# Altium schematic symbol library PinSocKeyPointOthers.SchLib: 19 symbols
Pins are listed as number, name and electrical type; pins without a type are passive.

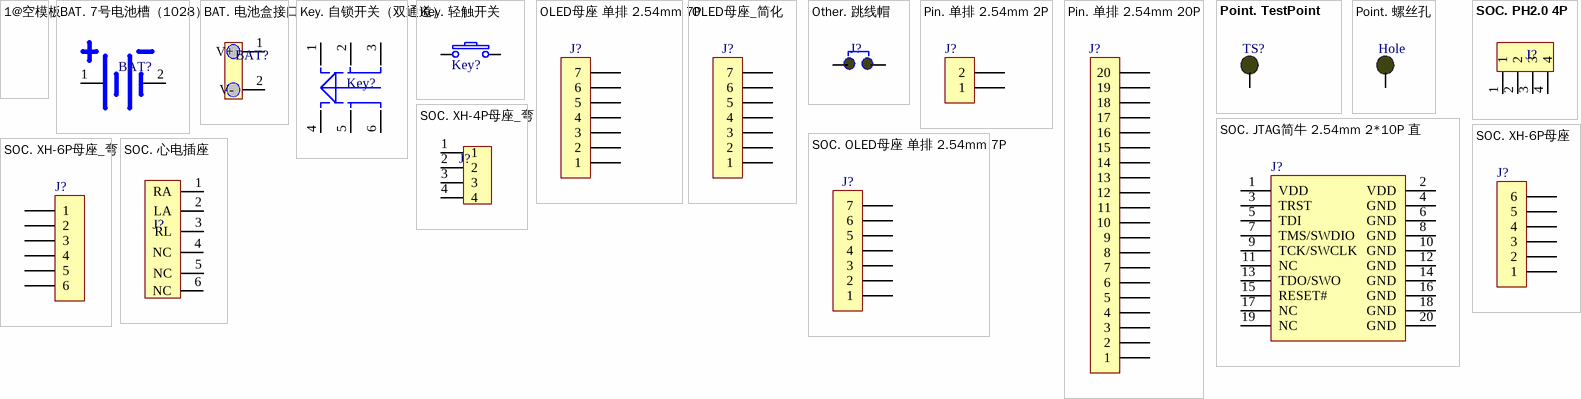
[diagram p0: symbols 1@空模板 to SOC. 心电插座]

## 1@空模板
designator ?  (value not drawn)
A.元件编号: *; B.元件名称: *; C.元件类型: *; D.元件型号: *; E.封装规格: *; F.阻值(Ω)/容值(μF): *; G.电压: *; H.精度: *; I.焊盘数量: *; J.品牌产地: *; 单价/元: *; 原创: *; 备注: *

## BAT. 7号电池槽（1028）
designator BAT?  (value not drawn)
A.元件编号: *; B.元件名称: *; C.元件类型: *; D.元件型号: *; E.封装规格: *; F.阻值(Ω)/容值(μF): *; G.电压: *; H.精度: *; I.焊盘数量: *; J.品牌产地: *; 单价/元: *; 原创: *; 备注: *
footprint Battery1028 (7号电池槽穿孔)
pins: 1 V+, 2 V-

## BAT. 电池盒接口
designator BAT?, comment 电池接口  (value not drawn)
A.元件编号: *; B.元件名称: *; C.元件类型: *; D.元件型号: *; E.封装规格: *; F.阻值(Ω)/容值(μF): *; G.电压: *; H.精度: *; I.焊盘数量: *; J.品牌产地: *; 单价/元: *; 原创: *; 备注: *
footprint 电池线接口
pins: 1 V+, 2 V-

## Key. 自锁开关（双通道）
designator Key?  (value not drawn)
按下1-2,4-5接通，松开2-3,5-6接通; A.元件编号: C118141; 备注: 立创非可贴片元器件; B.元件名称: 轻触开关 3.6*6.1*2.5 灰头; C.元件类别: 轻触开关; E.封装规格: SMD/3.6*6.1*2.5; I.焊盘数量: 2; J.品牌产地: 韩国韩荣; 单价/元（大批量）: 0.21; D.元件型号: 轻触开关 3.6*6.1*2.5 灰头; F.阻值(Ω)/容值(uF): *; G.电压: *; H.精度: *; Value: *
footprint Double-Channel self-locking push key
pins: 1, 2, 3, 4, 5, 6

## Key. 轻触开关
designator Key?  (value not drawn)
贴片轻触开关，  灰头，  3.6*6.1*2.5，SMD/3.6*6.1*2.5; A.元件编号: C118141; 备注: 立创非可贴片元器件; B.元件名称: 轻触开关 3.6*6.1*2.5 灰头; I.焊盘数量: 2; J.品牌产地: 韩国韩荣; 单价/元（大批量）: 0.21; C.元件类别: 轻触开关; D.元件型号: 轻触开关 3.6*6.1*2.5 灰头; E.封装规格: SMD/3.6*6.1*2.5; F.阻值(Ω)/容值(uF): *; G.电压: *; H.精度: *; Value: *
footprint TSW SMD-6*6*5
footprint TSW SMD-3.6*6.1*2.5
pins: 1, 2

## OLED母座 单排 2.54mm 7P
designator J?  (value not drawn)
OLED母座，单排，2.54mm，7P; 备注: 立创非可贴片元器件，C5303，2.54mm 1*40T 直 排母，后加工; C.元件类别: 排母; E.封装规格: HDR-1X7; I.焊盘数量: 7; 单价/元（大批量）: 0.66; Value: *; A.元件编号: *; B.元件名称: OLED母座 单排 2.54mm 7P; H.精度: *; G.电压: *; F.阻值(Ω)/容值(uF): *; J.品牌产地: *
footprint OLED SIP2.54-7P
pins: 1, 2, 3, 4, 5, 6, 7

## OLED母座_简化
designator J?  (value not drawn)
OLED母座，单排，2.54mm，7P; 备注: 立创非可贴片元器件，C5303，2.54mm 1*40T 直 排母，后加工; C.元件类别: 排母; A.元件编号: C225504; E.封装规格: HDR-1X7; B.元件名称: OLED母座 单排 2.54mm 7P; I.焊盘数量: 7; 单价/元（大批量）: 0.66; Value: *; H.精度: *; G.电压: *; F.阻值(Ω)/容值(uF): *; J.品牌产地: *
footprint OLED SIP2.54-7P - simplify
pins: 1, 2, 3, 4, 5, 6, 7

## Other. 跳线帽
designator J?  (value not drawn)
A.元件编号: *; B.元件名称: *; C.元件类型: *; D.元件型号: *; E.封装规格: *; F.阻值(Ω)/容值(μF): *; G.电压: *; H.精度: *; I.焊盘数量: *; J.品牌产地: *; 单价/元: *; 原创: *; 备注: *
footprint HDR-1x2
pins: 1, 2

## Pin. 单排 2.54mm 2P
designator J?  (value not drawn)
排针，单排，2.54mm，2P，国产; 备注: 立创非可贴片元器件，C2337，2.54mm 1*40P 直 排针，后加工; C.元件类别: 排针; E.封装规格: HDR-1X2; B.元件名称: 2.54mm 1*2P 直 排针; I.焊盘数量: 2; 单价/元（大批量）: 0.31; Value: *; A.元件编号: *; D.元件型号: *; H.精度: *; G.电压: *; F.阻值(Ω)/容值(uF): *; J.品牌产地: *
footprint HDR-1x2
pins: 1, 2

## Pin. 单排 2.54mm 20P
designator J?  (value not drawn)
排针，单排，2.54mm，20P，国产; 备注: 立创非可贴片元器件，C2337，2.54mm 1*40P 直 排针，后加工; C.元件类别: 排针; E.封装规格: HDR-1X20; B.元件名称: 2.54mm 20P 直 排针; I.焊盘数量: 20; 单价/元（大批量）: 0.31; Value: *; A.元件编号: *; D.元件型号: *; H.精度: *; G.电压: *; F.阻值(Ω)/容值(uF): *; J.品牌产地: *
footprint HDR-1X20
pins: 1, 2, 3, 4, 5, 6, 7, 8, 9, 10, 11, 12, 13, 14, 15, 16, 17, 18, 19, 20

## Point. TestPoint
designator TS?, comment 测试点  (value not drawn)
A.元件编号: *; B.元件名称: *; C.元件类型: *; D.元件型号: *; E.封装规格: *; F.阻值(Ω)/容值(μF): *; G.电压: *; H.精度: *; I.焊盘数量: *; J.品牌产地: *; 单价/元: *; 原创: *; 备注: *
footprint singleXH-2.54mm (测试点)
pins: 1

## Point. 螺丝孔
designator Hole, comment 测试点  (value not drawn)
A.元件编号: *; B.元件名称: *; C.元件类型: *; D.元件型号: *; E.封装规格: *; F.阻值(Ω)/容值(μF): *; G.电压: *; H.精度: *; I.焊盘数量: *; J.品牌产地: *; 单价/元: *; 原创: *; 备注: *
footprint 螺丝孔
pins: 1

## SOC. JTAG简牛 2.54mm 2*10P 直
designator J?  (value not drawn)
简牛，2.54mm，2*10P，直，国产; 备注: 立创非可贴片元器件; A.元件编号: C3405; C.元件类别: 牛角连接器; E.封装规格: DIP-20; I.焊盘数量: 20; J.品牌产地: 国产; 单价/元（大批量）: 0.33; B.元件名称: 简牛 2.54mm 2*10P 直; D.元件型号: 简牛 2.54mm 2*10P 直; F.阻值(Ω)/容值(uF): *; G.电压: *; H.精度: *
footprint IDC2.54-20P
pins: 1 VDD, 2 VDD, 3 TRST, 4 GND, 5 TDI, 6 GND, 7 TMS/SWDIO, 8 GND, 9 TCK/SWCLK, 10 GND, 11 NC, 12 GND, 13 TDO/SWO, 14 GND, 15 RESET#, 16 GND, 17 NC, 18 GND, 19 NC, 20 GND

## SOC. OLED母座 单排 2.54mm 7P
designator J?  (value not drawn)
OLED母座，单排，2.54mm，7P; 备注: 立创非可贴片元器件，C5303，2.54mm 1*40T 直 排母，后加工; C.元件类别: 排母; E.封装规格: HDR-1X7; I.焊盘数量: 7; 单价/元（大批量）: 0.66; Value: *; A.元件编号: *; B.元件名称: OLED母座 单排 2.54mm 7P; H.精度: *; G.电压: *; F.阻值(Ω)/容值(uF): *; J.品牌产地: *
footprint OLED SIP2.54-7P
pins: 1, 2, 3, 4, 5, 6, 7

## SOC. PH2.0 4P
designator J?  (value not drawn)
弯脚; A.元件编号: *; B.元件名称: *; C.元件类型: *; D.元件型号: *; E.封装规格: *; F.阻值(Ω)/容值(μF): *; G.电压: *; H.精度: *; I.焊盘数量: *; J.品牌产地: *; 单价/元: *; 原创: *; 备注: *
footprint PH2.0 4P (弯)
pins: 1, 2, 3, 4

## SOC. XH-4P母座_弯
designator J?  (value not drawn)
弯脚; A.元件编号: *; B.元件名称: *; C.元件类型: *; D.元件型号: *; E.封装规格: *; F.阻值(Ω)/容值(μF): *; G.电压: *; H.精度: *; I.焊盘数量: *; J.品牌产地: *; 单价/元: *; 原创: *; 备注: https://detail.tmall.com/item.htm?spm=a230r.1.14.40.6d732b96iHWAmO&id=36555951064&ns=1&abbucket=15&skuId=68736389677
footprint XH2.54-4P
pins: 1, 2, 3, 4

## SOC. XH-6P母座
designator J?  (value not drawn)
XH-6A，脚距2.54mm，直针带锁，国产; 备注: 立创非可贴片元器件; A.元件编号: C70009; B.元件名称: XB-6A，6P，脚距2.54mm，直针; C.元件类别: XH连接器; D.元件型号: XHB-6A 直针白色; E.封装规格: XH2.54-6P; I.焊盘数量: 6; J.品牌产地: 国产; 单价/元（大批量）: 0.0755; Value: *; F.阻值(Ω)/容值(uF): *; G.电压: *; H.精度: *
footprint XH2.54-6P
pins: 1, 2, 3, 4, 5, 6

## SOC. XH-6P母座_弯
designator J?, comment XH-6P母座_弯  (value not drawn)
弯; 备注: 立创非可贴片元器件; A.元件编号: C388743; B.元件名称: XB-6A，6P，脚距2.54mm，弯针; C.元件类别: XH连接器; D.元件型号: XHB-6A 直针白色; E.封装规格: XH2.54-6P; I.焊盘数量: 6; J.品牌产地: 国产; 单价/元（大批量）: 0.0755; Value: *; F.阻值(Ω)/容值(uF): *; G.电压: *; H.精度: *
footprint XH-2.54-6P 弯
pins: 1, 2, 3, 4, 5, 6

## SOC. 心电插座
designator J?  (value not drawn)
A.元件编号: *; B.元件名称: *; C.元件类型: *; D.元件型号: *; E.封装规格: *; F.阻值(Ω)/容值(μF): *; G.电压: *; H.精度: *; I.焊盘数量: *; J.品牌产地: *; 单价/元: *; 原创: *; 备注: *
footprint XH2.54-6P
pins: 1 RA, 2 LA, 3 RL, 4 NC, 5 NC, 6 NC